# EAGLE library part LT3971 (library ACB)
Stepdown 1,2A 4,3-38Vin 1,2-30Vout 0,2-2Mhz 2,5uAquesc, SS, accurate EN 1,0V 5,6$ http://cds.linear.com/docs/en/datasheet/3971fd.pdf Hořa 7.6.2017 opravil Jara pozdeji
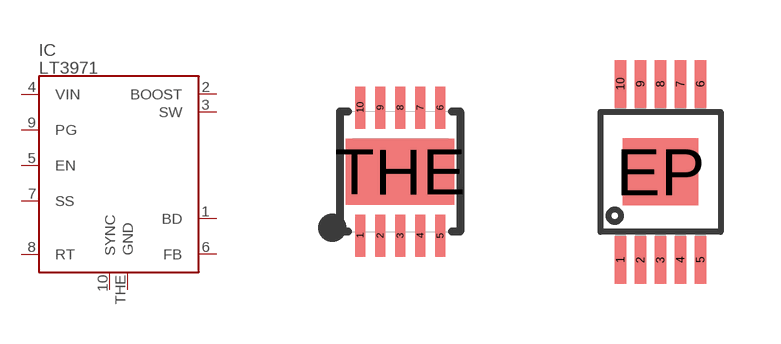
[diagram p3: symbol with the pads of QFN10EXP; footprints QFN10EXP, MSOP10EXP]

Designator prefix IC

## LT3971EDD  [QFN10EXP]
1  BD  in
2  BOOST  in
3  SW  out
4  VIN  in
5  EN  in
6  FB  in
7  SS  in
8  RT  in
9  PG
10  SYNC  in
THE  GND  in

## LT3971EMSE  [MSOP10EXP]
1  BD  in
2  BOOST  in
3  SW  out
4  VIN  in
5  EN  in
6  FB  in
7  SS  in
8  RT  in
9  PG
10  SYNC  in
EP  GND  in

## Footprint QFN10EXP (pad centres in mm)
smd 0.25 x 1.05: 1 -1,-1.6; 2 -0.5,-1.6; 3 0,-1.6; 4 0.5,-1.6; 5 1,-1.6; 6 1,1.6; 7 0.5,1.6; 8 0,1.6; 9 -0.5,1.6; 10 -1,1.6
smd 2.7 x 1.65: THE 0,0

## Footprint MSOP10EXP (pad centres in mm)
smd 0.29 x 1.19: 1 -1,-2.2; 2 -0.5,-2.2; 3 0,-2.2; 4 0.5,-2.2; 5 1,-2.2; 6 1,2.2; 7 0.5,2.2; 8 0,2.2; 9 -0.5,2.2; 10 -1,2.2
smd 1.88 x 1.68: EP 0,0